# Altium schematic symbol library OPAMP-LMV358-2CH-8PIN.SchLib: 1 symbol
Pins are listed as number, name and electrical type; pins without a type are passive.

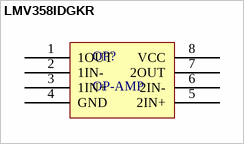
[diagram p0: symbol LMV358IDGKR]

## LMV358IDGKR
designator OP?, comment OP-AMP
TEXAS INSTRUMENTS - LMV358IDGKR - OP AMP, LOW VOLTAGE, 1MHZ, 1V/US, MSOP-8; Voltage Gain: 100dB; Min Supply Voltage: 2.7V; Max Supply Voltage: 5.5V; Common Mode Rejection Ratio: 50dB; Number of Channels: 2; Output Current: 160mA; Slew Rate: 1V/µs; Nominal Supply Current: 440uA; Input Bias Current: 250nA; Input Offset Voltage (Vos): 7mV; Operating Supply Current: 210uA; Supplier 1: Digi-Key; Manufacturer: Texas Instruments; Manufacturer Part Number: LMV358IDGKR; Stock 1: 19175; Pricing 1: 1=0.55, 10=0.473, 25=0.4416, 100=0.3532, 250=0.328, 500=0.2775, 1000=0.2144 (USD); Mount: Surface Mount; Case/Package: MSOP; Number of Pins: 8; Contact Plating: Gold; Min Operating Temperature: -40°C; Max Operating Temperature: 125°C; Gain Bandwidth Product: 1MHz; Packaging: Tape and Reel; Bandwidth: 1MHz; Number of Circuits: 2; Package Quantity: 1; Unity Gain Bandwidth Product: 1MHz; Output Current per Channel: 160mA; Number of Elements: 2; Power Supply Rejection Ratio (PSRR): 50dB; Number of Amplifiers: 2; Length: 3mm; Width: 3mm; Height: 0.97mm; Radiation Hardening: No; Lead Free: Lead Free; REACH SVHC: No SVHC; RoHS Compliant: Yes; ComponentLink1URL: http://www.farnell.com/datasheets/1877073.pdf?src-supplier=Element14; ComponentLink1Description: http://www.farnell.com/datasheets/1877073.pdf?src-supplier=Element14; ComponentLink2URL: http://www.ti.com/lit/ds/symlink/lmv324.pdf?src-supplier=Digi-Key; ComponentLink2Description: http://www.ti.com/lit/ds/symlink/lmv324.pdf?src-supplier=Digi-Key; ComponentLink3URL: http://focus.ti.com/lit/ds/symlink/lmv321.pdf?src-supplier=Avnet+Europe; ComponentLink3Description: http://focus.ti.com/lit/ds/symlink/lmv321.pdf?src-supplier=Avnet+Europe; ComponentLink4URL: http://www.ti.com/lit/ds/symlink/lmv358.pdf?src-supplier=Avnet; ComponentLink4Description: http://www.ti.com/lit/ds/symlink/lmv358.pdf?src-supplier=Avnet; ComponentLink5URL: http://datasheet.iiic.cc/texas_instruments/LMV358IDGKR.pdf?src-supplier=IIIC; ComponentLink5Description: http://datasheet.iiic.cc/texas_instruments/LMV358IDGKR.pdf?src-supplier=IIIC; Supplier Part Number 1: 296-13455-1-ND
footprint SOP8
pins: 1 1OUT, 2 1IN-, 3 1IN+, 4 GND, 5 2IN+, 6 2IN-, 7 2OUT, 8 VCC